# Altium footprint library 电感.PcbLib: 63 footprints (part 4 of 4)
Each footprint in its own frame and in the unit in brackets; x right, y up, seen from the top. Pads: shape width x height; smd on the part's side, far side on the other; paste and mask are expansions set on the pad; w line width, h text height; cw(c..) or ccw(c..) is an arc to the next point about the centre after c.
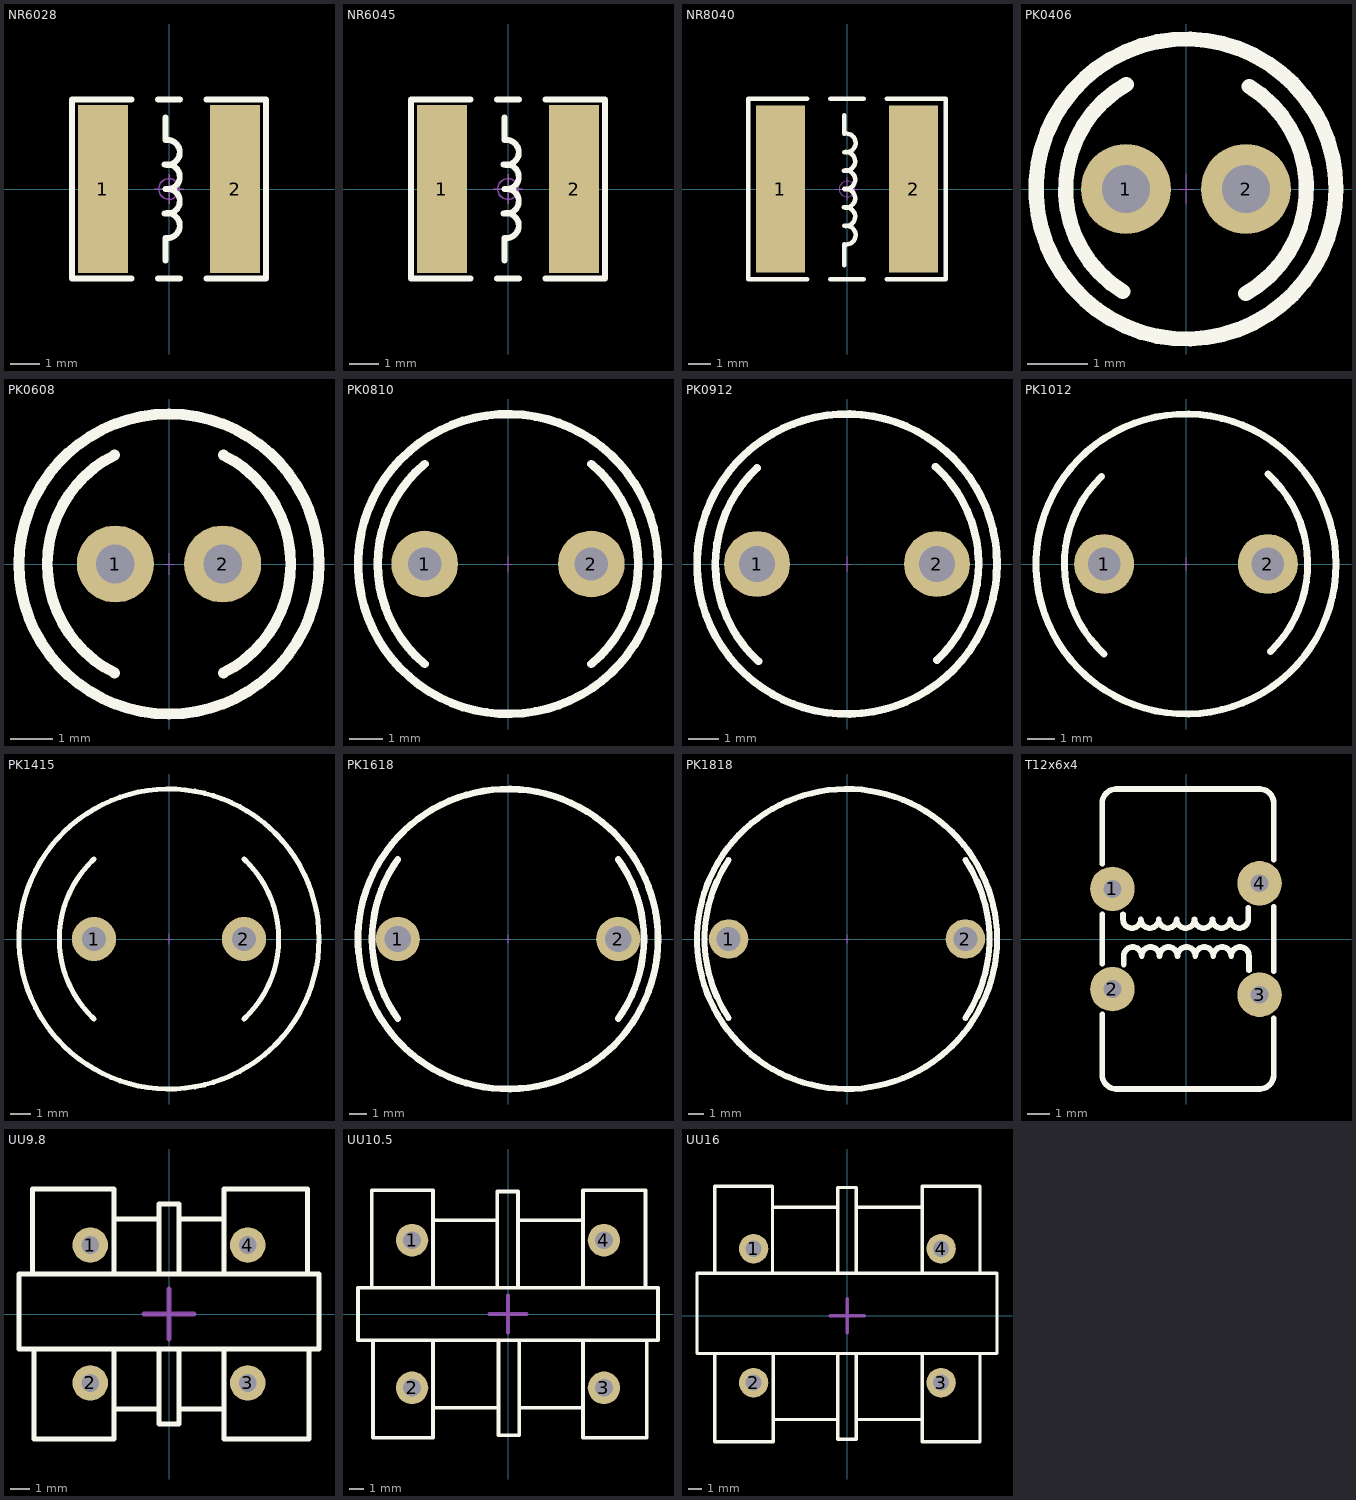
[diagram p3: the footprints below, top view; thin cyan lines are the x and y axes]

## NR6028 [mm] "6.0mm*6.0mm*2.8mm(长*宽*高）"
pads (2):
  rect 1.7x5.7 smd: 1(-2.25,0) 2(2.25,0)
Top Overlay:
  lines w0.203: -1.27,-3.048 -3.302,-3.048 -3.302,3.048 -1.27,3.048 ; -0.381,-3.048 0.381,-3.048 ; -0.381,3.048 0.381,3.048 ; -0.127,-2.424 -0.127,-1.662 ccw(c-0.057,-1.244) -0.149,-0.831 ccw(c-0.057,-0.418) -0.127,0 ccw(c-0.057,0.418) -0.149,0.831 ccw(c-0.057,1.244) -0.127,1.662 -0.127,2.424 ; 1.27,-3.048 3.302,-3.048 3.302,3.048 1.27,3.048
Mechanical 15:
  circle w0.05: c0,0 r0.35
  lines w0.05: -0.5,0 0.5,0 ; 0,-0.5 0,0.5
3D body "NR6028.STEP": height 2.9, standoff 0, extent -3,-3 3,3

## NR6045 [mm] "6.0mm*6.0mm*4.5mm(长*宽*高）"
pads (2):
  rect 1.7x5.7 smd: 1(-2.25,0) 2(2.25,0)
Top Overlay:
  lines w0.203: -1.27,-3.048 -3.302,-3.048 -3.302,3.048 -1.27,3.048 ; -0.381,-3.048 0.381,-3.048 ; -0.381,3.048 0.381,3.048 ; -0.127,-2.424 -0.127,-1.662 ccw(c-0.057,-1.244) -0.149,-0.831 ccw(c-0.057,-0.418) -0.127,0 ccw(c-0.057,0.418) -0.149,0.831 ccw(c-0.057,1.244) -0.127,1.662 -0.127,2.424 ; 1.27,-3.048 3.302,-3.048 3.302,3.048 1.27,3.048
Mechanical 15:
  circle w0.05: c0,0 r0.35
  lines w0.05: -0.5,0 0.5,0 ; 0,-0.5 0,0.5
3D body "NR6045.STEP": height 4.6, standoff 0, extent -3,-3 3,3

## NR8040 [mm] "8.0mm*8.0mm*4.0mm(长*宽*高）"
pads (2):
  rect 2.2x7.5 smd: 1(-3,0) 2(3,0)
Top Overlay:
  lines w0.203: -1.778,-4.064 -4.445,-4.064 -4.445,4.064 -1.778,4.064 ; -0.762,-4.064 0.762,-4.064 ; -0.762,4.064 0.762,4.064 ; -0.127,-3.44 -0.127,-2.492 ; -0.127,2.492 -0.127,3.313 ; -0.105,-2.492 ccw(c-0.035,-2.075) -0.127,-1.662 ccw(c-0.057,-1.244) -0.149,-0.831 ccw(c-0.057,-0.418) -0.127,0 ccw(c-0.057,0.418) -0.149,0.831 ccw(c-0.057,1.244) -0.127,1.662 ccw(c-0.035,2.075) -0.105,2.492 ; 1.778,-4.064 4.445,-4.064 4.445,4.064 1.778,4.064
Mechanical 15:
  circle w0.05: c0,0 r0.35
  lines w0.05: -0.5,0 0.5,0 ; 0,-0.5 0,0.5
3D body "NR8040.STEP": height 4.1, standoff 0, extent -4,-4 4,4

## PK0406 [mm] "2*5*8mm(脚距，直径，高）"
pads (2):
  round 1.5 hole 0.8: 1(-1,0) 2(1,0)
Top Overlay:
  circle w0.254: c0,0 r2.5
  lines w0.254: -1.052,-1.71 cw(c0,0) -0.996,1.743 ; 0.996,-1.743 ccw(c0,0) 1.052,1.71
Mechanical 15:
  lines w0.01: -0.127,0 0.127,0 ; 0,-0.254 0,0.254
3D body "PK0406.STEP": height 8.02, standoff -2.78, extent -2.5,-2.5 2.5,2.5

## PK0608 [mm] "2.5*7*10mm(脚距，直径，高）"
pads (2):
  round 1.8 hole 0.9: 1(-1.25,0) 2(1.25,0)
Top Overlay:
  circle w0.254: c0,0 r3.5
  lines w0.254: -1.27,-2.54 cw(c0,0) -1.27,2.54 ; 1.27,-2.54 ccw(c0,0) 1.27,2.54
Mechanical 15:
  lines w0.01: -0.127,0 0.127,0 ; 0,-0.254 0,0.254
3D body "PK0608.STEP": height 10.02, standoff -2.78, extent -3.5,-3.5 3.5,3.5

## PK0810 [mm] "5*9*12mm(脚距，直径，高）"
pads (2):
  round 2 hole 1: 1(-2.5,0) 2(2.5,0)
Top Overlay:
  circle w0.254: c0,0 r4.5
  lines w0.254: -2.5,-3 cw(c0,0) -2.5,3 ; 2.5,-3 ccw(c0,0) 2.5,3
Mechanical 15:
  lines w0.01: -0.127,0 0.127,0 ; 0,-0.254 0,0.254
3D body "PK0810.STEP": height 12.02, standoff -2.78, extent -4.5,-4.5 4.5,4.5

## PK0912 [mm] "6*10*14mm(脚距，直径，高）"
pads (2):
  round 2.2 hole 1.2: 1(-3,0) 2(3,0)
Top Overlay:
  circle w0.254: c0,0 r5
  lines w0.254: -3,3.2 ccw(c0,0) -2.951,-3.246 ; 2.951,3.246 cw(c0,0) 3,-3.2
Mechanical 15:
  lines w0.01: -0.127,0 0.127,0 ; 0,-0.254 0,0.254
3D body "PK0912.STEP": height 14.02, standoff -2.78, extent -5,-5 5,5

## PK1012 [mm] "6*11*14mm(脚距，直径，高）"
pads (2):
  round 2.2 hole 1.2: 1(-3,0) 2(3,0)
Top Overlay:
  circle w0.254: c0,0 r5.5
  lines w0.254: -3.101,3.205 ccw(c0,0) -3,-3.3 ; 3,3.3 cw(c0,0) 3.101,-3.205
Mechanical 15:
  lines w0.01: -0.127,0 0.127,0 ; 0,-0.254 0,0.254
3D body "PK1012.STEP": height 14.02, standoff -2.78, extent -5.5,-5.5 5.5,5.5

## PK1415 [mm] "7.5*15*17mm(脚距，直径，高）"
pads (2):
  round 2.2 hole 1.2: 1(-3.75,0) 2(3.75,0)
Top Overlay:
  circle w0.254: c0,0 r7.5
  lines w0.254: -3.75,-4 cw(c0,0) -3.75,4 ; 3.75,-4 ccw(c0,0) 3.75,4
Mechanical 15:
  lines w0.01: -0.127,0 0.127,0 ; 0,-0.254 0,0.254
3D body "PK1415.STEP": height 17.02, standoff -2.78, extent -7.5,-7.5 7.5,7.5

## PK1618 [mm] "12.5*17*20mm(脚距，直径，高）"
pads (2):
  round 2.5 hole 1.5: 1(-6.25,0) 2(6.25,0)
Top Overlay:
  circle w0.381: c0,0 r8.5
  lines w0.381: -6.25,-4.5 cw(c0,0) -6.25,4.5 ; 6.25,-4.5 ccw(c0,0) 6.25,4.5
Mechanical 15:
  lines w0.01: -0.127,0 0.127,0 ; 0,-0.254 0,0.254
3D body "PK1618.STEP": height 20.02, standoff -2.78, extent -8.5,-8.5 8.5,8.5

## PK1818 [mm] "15*19*20mm(脚距，直径，高）"
pads (2):
  round 2.5 hole 1.5: 1(-7.5,0) 2(7.5,0)
Top Overlay:
  circle w0.381: c0,0 r9.5
  lines w0.381: -7.5,-5 cw(c0,0) -7.5,5 ; 7.5,-5 ccw(c0,0) 7.5,5
Mechanical 15:
  lines w0.01: -0.127,0 0.127,0 ; 0,-0.254 0,0.254
3D body "PK1818.STEP": height 20.02, standoff -2.78, extent -9.5,-9.5 9.5,9.5

## T12x6x4 [mm] "直径：13.2mm，厚：7.2mm，脚距5*6.6mm"
pads (4):
  round 2 hole 0.8: 1(-3.3,2.25) 2(-3.3,-2.25) 3(3.3,-2.5) 4(3.3,2.5)
Top Overlay:
  lines w0.254: -3.759,-3.378 -3.759,-6.096 ccw(c-3.124,-6.096) -3.124,-6.731 3.175,-6.731 3.302,-6.731 ccw(c3.302,-6.096) 3.937,-6.096 3.937,-3.556 ; -3.759,-1.118 -3.759,0.584 -3.759,1.118 ; -3.759,3.378 -3.759,6.096 cw(c-3.124,6.096) -3.124,6.731 3.175,6.731 3.302,6.731 cw(c3.302,6.096) 3.937,6.096 3.937,3.556 ; -2.829,1.108 -2.829,0.889 ccw(c-2.427,0.889) -2.025,0.889 ccw(c-1.624,0.889) -1.222,0.889 ccw(c-0.82,0.889) -0.419,0.889 ccw(c-0.017,0.889) 0.384,0.889 ccw(c0.786,0.889) 1.188,0.889 ccw(c1.589,0.889) 1.991,0.889 ccw(c2.392,0.889) 2.794,0.889 2.794,1.397 ; -2.794,-1.143 -2.794,-0.762 cw(c-2.392,-0.762) -1.991,-0.762 cw(c-1.589,-0.762) -1.188,-0.762 cw(c-0.786,-0.762) -0.384,-0.762 cw(c0.017,-0.762) 0.419,-0.762 cw(c0.82,-0.762) 1.222,-0.762 cw(c1.624,-0.762) 2.025,-0.762 cw(c2.427,-0.762) 2.829,-0.762 2.829,-1.397 ; 3.937,-1.448 3.937,0.914 3.937,1.448
3D body "T12x6x4.STEP": height 12, standoff -3.53, extent -3.61,-6.604 3.789,6.604

## UU9.8 [mm] "17*12*17mm(长宽高）"
pads (4):
  round 1.8 hole 0.9: 1(-4,3.5) 2(-4,-3.5) 3(4,-3.5) 4(4,3.5)
Top Overlay:
  lines w0.254: -6.943,2.032 -6.943,6.35 -2.794,6.35 -2.794,2.032 ; -6.858,-1.778 -6.858,-6.35 -2.794,-6.35 -2.794,-1.778 ; -2.794,-4.826 -0.638,-4.826 ; -2.794,4.826 -0.508,4.826 ; -0.508,-1.778 -0.508,-5.588 0.508,-5.588 0.508,-1.778 ; -0.508,2.032 -0.508,5.588 0.508,5.588 0.508,2.032 ; 0.508,-4.826 2.794,-4.826 ; 0.508,4.826 2.794,4.826 ; 2.794,-1.778 2.794,-6.35 7.112,-6.35 7.112,-1.778 ; 2.794,2.032 2.794,6.35 7.027,6.35 7.027,2.032 ; -7.62,-1.778 7.62,-1.778 7.62,2.032 -7.62,2.032 -7.62,-1.778
Mechanical 15:
  lines w0.254: -1.27,0 1.27,0 ; 0,-1.27 0,1.27
3D body "UU9.8.STEP": height 17.05, standoff -3.45, extent -8.5,-6 8.5,6

## UU10.5 [mm] "18*16*20mm(长宽高）"
pads (4):
  round 2.2 hole 1.2: 1(-6.5,5) 2(-6.5,-5) 3(6.5,-5) 4(6.5,5)
Top Overlay:
  lines w0.254: -9.229,1.904 -9.229,8.382 -5.08,8.382 -5.08,1.904 ; -9.144,-1.81 -9.144,-8.382 -5.08,-8.382 -5.08,-1.81 ; -5.08,-6.35 -0.638,-6.35 ; -5.08,6.35 -0.723,6.35 ; -0.723,1.904 -0.723,8.304 0.677,8.304 0.677,1.904 ; -0.638,-1.81 -0.638,-8.21 0.762,-8.21 0.762,-1.81 ; 0.677,6.35 5.08,6.35 ; 0.762,-6.35 5.08,-6.35 ; 5.08,-1.904 5.08,-8.382 9.398,-8.382 9.398,-1.904 ; 5.08,1.904 5.08,8.382 9.313,8.382 9.313,1.904 ; -10.16,-1.778 -10.16,1.778 10.16,1.778 10.16,-1.778 -10.16,-1.778
Mechanical 15:
  lines w0.254: -1.27,0 1.27,0 ; 0,-1.27 0,1.27
3D body "UU10.5.STEP": height 21.05, standoff -3.45, extent -9.4,-8 9.4,8

## UU16 [mm] "22*17.5*23mm(长宽高）"
pads (4):
  round 2.2 hole 1.2: 1(-7,5) 2(-7,-5) 3(7,-5) 4(7,5)
Top Overlay:
  lines w0.254: -9.906,-2.826 -9.906,-9.398 -5.523,-9.398 -5.523,-2.826 ; -9.906,3.174 -9.906,9.652 -5.588,9.652 -5.588,3.174 ; -5.523,-7.749 -0.723,-7.749 ; -5.523,8.097 -0.723,8.097 ; -0.723,-2.826 -0.723,-9.226 0.677,-9.226 0.677,-2.826 ; -0.723,3.174 -0.723,9.574 0.677,9.574 0.677,3.174 ; 0.677,-7.749 5.477,-7.749 ; 0.677,8.097 5.477,8.097 ; 5.588,-2.92 5.588,-9.398 9.906,-9.398 9.906,-2.92 ; 5.588,3.174 5.588,9.652 9.906,9.652 9.906,3.174 ; -11.223,-2.826 11.177,-2.826 11.177,3.174 -11.223,3.174 -11.223,-2.826
Mechanical 15:
  lines w0.254: -1.27,0 1.27,0 ; 0,-1.27 0,1.27
3D body "UU16.STEP": height 22.05, standoff -3.45, extent -11,-8.75 11,8.75